# EAGLE library part PCA9540B (library NXP)
NXP PCA9540B-TSSOP8 2-Channel I2C-bus Multiplexer I2C-controlled, 5V supply, 1.8-6.5V outputs, 20mA currents Datasheet <http://www.nxp.com/documents/data_sheet/PCA9540B.pdf> Created by Ben Hurwitz, 9 March 2016
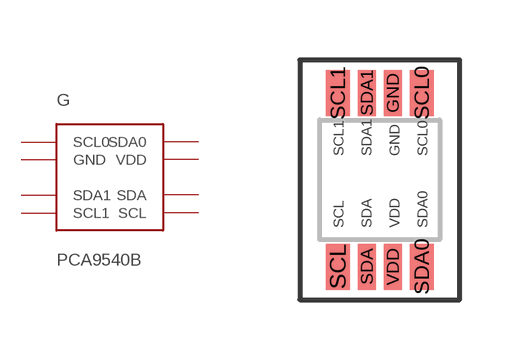
[diagram p40: symbol with the pads of PCA9540B; footprint PCA9540B]

Designator prefix G

## PCA9540BTSSOP8  [PCA9540B]
GND  GND
SCL  SCL
SCL0  SCL0
SCL1  SCL1
SDA  SDA
SDA0  SDA0
SDA1  SDA1
VDD  VDD

## Footprint PCA9540B (pad centres in mm)
smd 0.45 x 1.15: GND 0.325,2.175; SDA -0.325,-2.175; SDA1 -0.325,2.175; VDD 0.325,-2.175
smd 0.6 x 1.15: SCL -1.05,-2.175; SCL0 1.05,2.175; SCL1 -1.05,2.175; SDA0 1.05,-2.175